# Altium schematic symbol library ATWINC1500-MR210PA.SchLib: 1 symbol
Pins are listed as number, name and electrical type; pins without a type are passive.

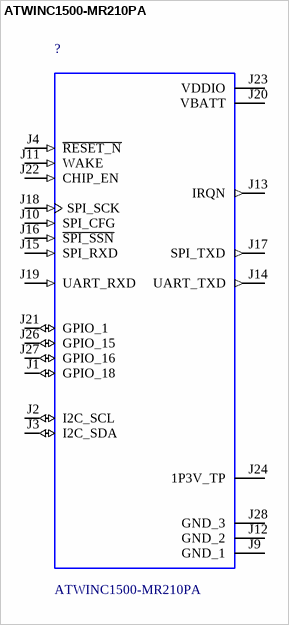
[diagram p0: symbol ATWINC1500-MR210PA]

## ATWINC1500-MR210PA
designator ?
Certified Module with ATWINC1500A-Mu Chip and PCB Antenna; MF: Microchip; Availability: Bad; Price: 14.92 USD; MP: ATWINC1500-MR210PA; Package: SMD-28 Microchip; SnapEDA_Link: https://www.snapeda.com/symbols-footprints/ATWINC1500-MR210PA/Microchip/view-part/?ref=snap; Value: *
footprint ATMEL_ATWINC1500-MR210PA_ATWINC1500-MR210PA(Primary)
pins: J1 GPIO_18 (io), J2 I2C_SCL (io), J3 I2C_SDA (io), J4 ~{RESET_N} (in), J9 GND_1, J10 SPI_CFG (in), J11 WAKE (in), J12 GND_2, J13 IRQN (out), J14 UART_TXD (out), J15 SPI_RXD (in), J16 ~{SPI_SSN} (in), J17 SPI_TXD (out), J18 SPI_SCK (in), J19 UART_RXD (in), J20 VBATT (power), J21 GPIO_1 (io), J22 CHIP_EN (in), J23 VDDIO (power), J24 1P3V_TP, J26 GPIO_15 (io), J27 GPIO_16 (io), J28 GND_3